# Altium footprint library GRM31CR71H225KA88L.PcbLib: 1 footprints
Each footprint in its own frame and in the unit in brackets; x right, y up, seen from the top. Pads: shape width x height; smd on the part's side, far side on the other; paste and mask are expansions set on the pad; w line width, h text height; cw(c..) or ccw(c..) is an arc to the next point about the centre after c.
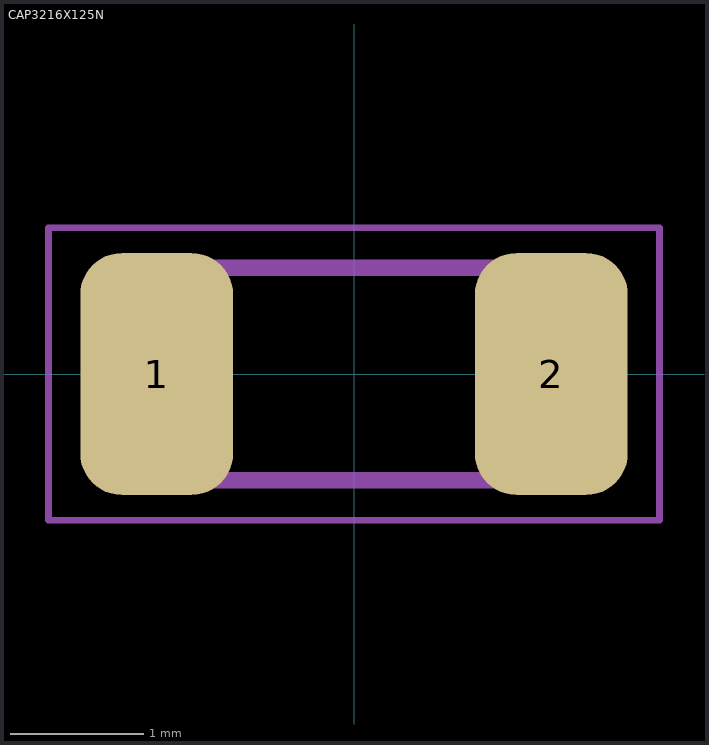
[diagram p0: the footprint, top view; thin cyan lines are the x and y axes]

## CAP3216X125N [mm]
pads (2):
  rrect54% 1.15x1.82 smd: 1(-1.485,0) 2(1.485,0)
Mechanical 13:
  lines w0.127: -1.6,-0.8 1.6,-0.8 1.6,0.8 -1.6,0.8 -1.6,-0.8
Mechanical 15:
  lines w0.05: -2.3,-1.1 2.3,-1.1 2.3,1.1 -2.3,1.1 -2.3,-1.1
3D body "step_temp.STEP": height 1.23, standoff -0.02, extent -1.6,-0.8 1.6,0.8